# Altium schematic symbol library capacitors.SchLib: 14 symbols
Pins are listed as number, name and electrical type; pins without a type are passive.

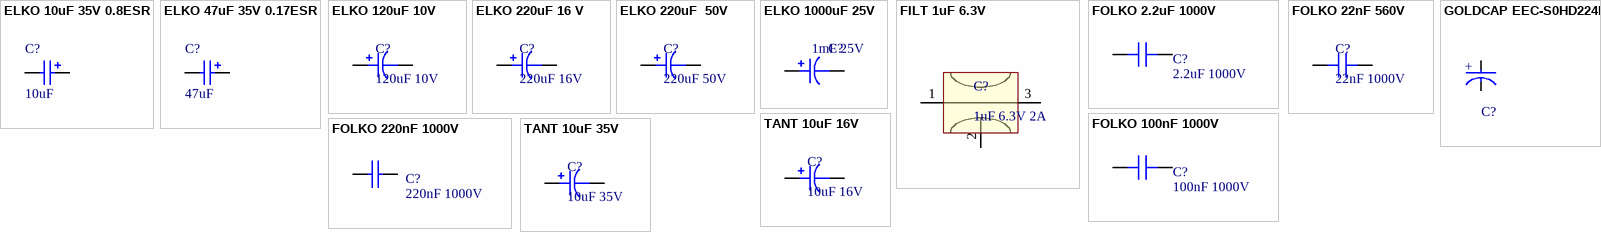
[diagram p0: symbols ELKO 10uF 35V 0.8ESR to TANT 10uF 35V]

## ELKO 10uF 35V 0.8ESR
designator C?, comment value 10uF  (hidden comment: 865060542002)
WCAP-ASLL Aluminum Electrolytic Capacitors, size Ф5x5.5mm, 35V DC, 10uF; Manufacturer: Würth; Created by: Nils Minor; Manufacturer Part Number: 865060542002
footprint CAP ALUM 5x5MM (Aluminium Electrolytic V-Chip SMT Capacitors, §¶5x5.5mm)
pins: 1 P, 2 N

## ELKO 47uF 35V 0.17ESR
designator C?, comment value 47uF  (hidden comment: 865060543005)
WCAP-ASLL Aluminum Electrolytic Capacitors, size Ф6.3x5.5mm, 35V DC, 47uF; Manufacturer: Würth; Manufacturer Part Number: 865060542002; Created by: Nils Minor
footprint CAP ALUM 6.3X5.5 (Aluminum Electrolytic Capacitor, Body 6.60x6.60x7.70mm, IPC Low Density)
pins: 1 P, 2 N

## ELKO 120uF 10V
designator C?, comment 120uF 10V
Aluminium Polymer Kondensator 120uF 10V 20% 105°C; Manufacturer: Nichicon; Manufacturer Part Number: RSA1A121MCN; Created by: Nils Minor; Value: 120uF
footprint CAP ALUM 6.6MM (Aluminum Electrolytic Capacitor, Body 6.60x6.60x7.70mm, IPC Low Density)
pins: + 1, - 2

## ELKO 220uF 16 V
designator C?, comment 220uF 16V
Aluminium Elektrolyt Kondensator 220uF 16V 20% 85°C; Manufacturer: Samwha; Manufacturer Part Number: SC1C227M6L07KKVR289; Created by: Nils Minor; Value: 220uF
footprint CAP ALUM 6.6MM (Aluminum Electrolytic Capacitor, Body 6.60x6.60x7.70mm, IPC Low Density)
pins: 1, 2

## ELKO 220uF  50V
designator C?, comment 220uF 50V
Aluminium Elektrolyt Kondensator 220 uF 50V 85°C; Manufacturer: Samwha; Manufacturer Part Number: SC1V227M10010VR200; Value: 220 µF; Created by: Nils Minor
footprint CAP ALUM 10.3MM (Aluminum Electrolytic Capacitor, Body 10.30x10.30x10.50mm, IPC Low Density)
pins: 1, 2

## ELKO 1000uF 25V
designator C?, comment 1mF 25V
Aluminium Elektrolyt Kondensator 1000uF 25V 105°C 20%; Manufacturer: Würth Elektronik; Manufacturer Part Number: 865080462016; Created by: Nils Minor; Value: 1000uF
footprint CAP ALUM 12.5MM (Aluminium Electrolytic V-Chip SMT Capacitors, 12.5x14mm)
pins: 1, 2

## FILT 1uF 6.3V
designator C?, comment 1uF 6.3V 2A
Durchführungskondensatoren 1uF 2A 6.3V 20% 105°C; Manufacturer: Murata; Manufacturer Part Number: NFM18PS105R0J3D; Created by: Nils Minor; Value: 1 uF
footprint NFM18PS105R0J3D
pins: 1, 2, 3

## FOLKO 2.2uF 1000V
designator C?, comment 2.2uF 1000V
Folienkondensator 2.2uF 1000V; Created by: Nils Minor; Value: 2.2uF
footprint 2POL-27mm x 12.2mm
pins: 1, 2

## FOLKO 22nF 560V
designator C?, comment 22nF 1000V
Folienkondensator 22nF 560V 10% 105°C; Manufacturer: Kemet; Manufacturer Part Number: R75LF22204000K; Created by: Nils Minor; Value: 22nF
footprint R75LF22204000K
pins: 0, 1

## FOLKO 100nF 1000V
designator C?, comment 100nF 1000V
Folienkondensator 100nF 1000V; Manufacturer: Wima; Manufacturer Part Number: MKS40131005D00K; Created by: Nils Minor; Value: 100nF
footprint 2POL-22.5mm x 7mm
pins: 1, 2

## FOLKO 220nF 1000V
designator C?, comment 220nF 1000V
Folienkondensator 220nF 1000V; Manufacturer: EPCOS; Manufacturer Part Number: B32654A0224S; Created by: Nils Minor; Value: 220nF
footprint 2POL-27mm x 10.8mm
pins: 1, 2

## GOLDCAP EEC-S0HD224HN
designator C?, comment 0.22F  (value not drawn)
Cap 0.22F 5.5V -20% to 80% 1000 hr (11.5 X 10.5 X 6mm) Radial Stacked Coin 5mm 70°C Bulk; Manufacturer: Panasonic; Created by: Nils Minor; Value: 0.22F
footprint EEC-S0HD224HN
pins: 1 C, 2 A
text: +

## TANT 10uF 16V
designator C?, comment 10uF 16V
Tantal Kondensator 10uF 16V 10% 125°C SMD 3216; Manufacturer: AVX; Created by: Nils Minor; Value: 10uF
footprint CAP POL A 1206/3216 (Molded Capacitor, 2-Leads, Body 3.25x1.60mm, IPC Medium Density)
pins: 1, 2

## TANT 10uF 35V
designator C?, comment 10uF 35V
Tantal Kondensator 10µF 35V SMD 6032-28; Manufacturer: Vishay / Sprague; Manufacturer Part Number: 293D106X0035C2TE3; Created by: Nils Minor; Value: 10uF
footprint CAP POL C 2412/6032 (Molded Capacitor, 2-Leads, Body 6.0x3.20mm, IPC Medium Density)
pins: 1, 2